# Altium footprint library SMD-4P-2.8x3.3.PcbLib: 1 footprints
Each footprint in its own frame and in the unit in brackets; x right, y up, seen from the top. Pads: shape width x height; smd on the part's side, far side on the other; paste and mask are expansions set on the pad; w line width, h text height; cw(c..) or ccw(c..) is an arc to the next point about the centre after c.
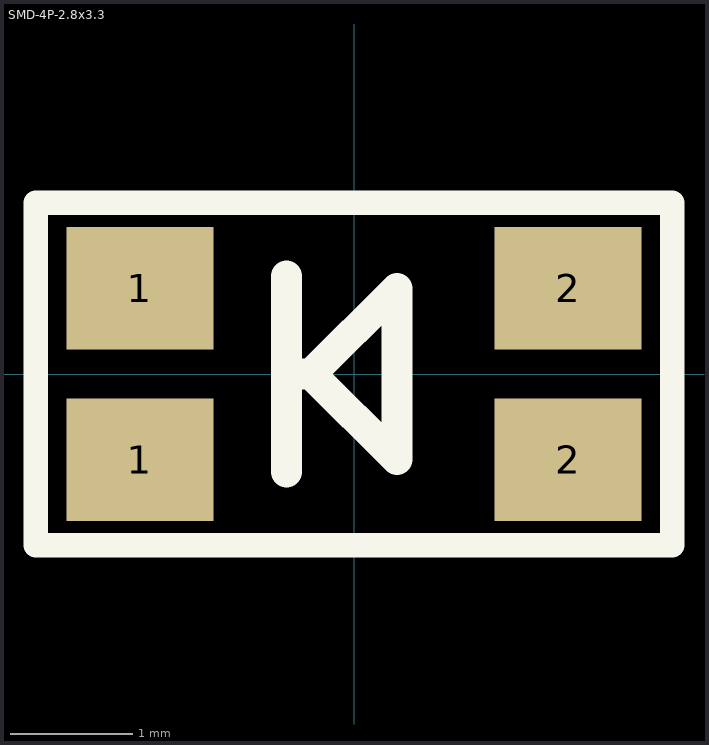
[diagram p0: the footprint, top view; thin cyan lines are the x and y axes]

## SMD-4P-2.8x3.3 [mm]
height 0.55
pads (4):
  rect 1.2x1 smd: 1(-1.75,-0.7) 1(-1.75,0.7) 2(1.75,-0.7) 2(1.75,0.7)
Top Overlay:
  lines w0.2: -2.6,-1.4 -2.6,1.4 2.6,1.4 2.6,-1.4 -2.6,-1.4
  lines w0.254: -0.55,-0.8 -0.55,0.8 ; -0.55,0 -0.35,0 ; -0.35,0 0.35,-0.7 0.35,0.7 -0.35,0
Top Assembly:
  lines w0.1: -2.6,-1.4 2.6,-1.4 2.6,-0.5 2.6,0.9 2.6,1.4 -2.6,1.4 -2.6,-1.4
  text "'.Designator'" at -0.975,-0.35 h0.7
3D body: height 1.2, standoff 0, extent -1.65,-1.3 1.65,1.3